# Altium schematic symbol library BOW_ESS_sch_lib.SchLib: 13 symbols
Pins are listed as number, name and electrical type; pins without a type are passive.

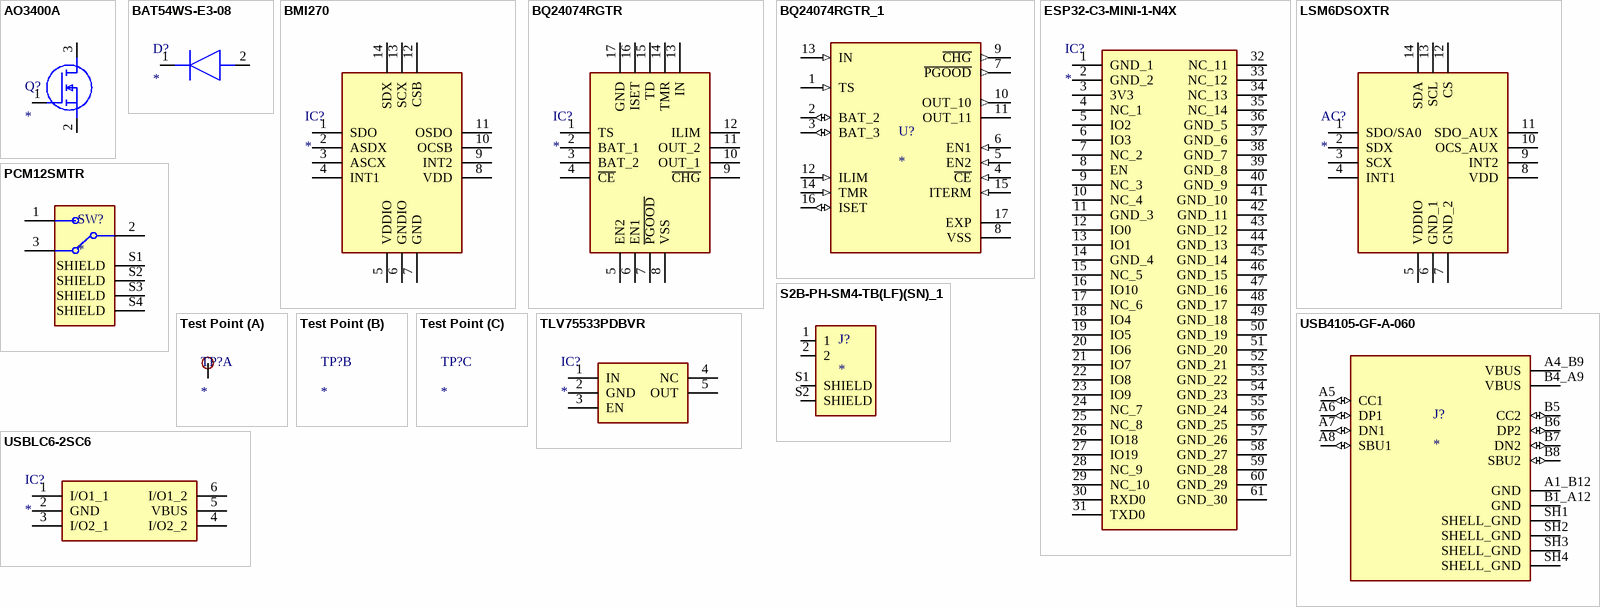
[diagram p0: symbols AO3400A to USBLC6-2SC6]

## AO3400A
designator Q?
MOSFET (N-Channel); Manufacturer_Name: Alpha & Omega Semiconductors; Manufacturer_Part_Number: AO3400A; Datasheet Link: http://aosmd.com/res/data_sheets/AO3400A.pdf; Height: 1.25mm; Arrow Part Number: AO3400A; Arrow Price/Stock: https://www.arrow.com/en/products/ao3400a/alpha-and-omega-semiconductor?utm_currency=USD&region=nac
footprint SOT95P280X125-3N
pins: 1 G, 2 S, 3 D

## BAT54WS-E3-08
designator D?
Diode; Manufacturer_Name: Vishay; Manufacturer_Part_Number: BAT54WS-E3-08; Datasheet Link: https://componentsearchengine.com/Datasheets/2/BAT54WS-E3-08.pdf; Height: 1.15mm; Mouser Part Number: 78-BAT54WS-E3-08; Mouser Price/Stock: https://www.mouser.co.uk/ProductDetail/Vishay-Semiconductors/BAT54WS-E3-08?qs=KP8Io%2FXyE5Rw40UGWRT8IQ%3D%3D; Arrow Part Number: BAT54WS-E3-08; Arrow Price/Stock: https://www.arrow.com/en/products/bat54ws-e3-08/vishay.html?utm_currency=USD&region=nac
footprint SOD2713X115N
pins: 1 K, 2 A

## BMI270
designator IC?
Integrated Circuit- IMU - Backup BMI270; Manufacturer_Name: BOSCH; Datasheet Link: https://www.bosch-sensortec.com/media/boschsensortec/downloads/datasheets/bst-bmi270-ds000.pdf; Height: 0.87mm; Manufacturer_Part_Number: BMI270; Mouser Part Number: 262-BMI270; Mouser Price/Stock: https://www.mouser.co.uk/ProductDetail/Bosch-Sensortec/BMI270?qs=u16ybLDytRYIj%252BjQEee88A%3D%3D; Arrow Part Number: BMI270; Arrow Price/Stock: https://www.arrow.com/en/products/bmi270/bosch-sensortec?utm_currency=USD&region=europe
footprint BMI270
pins: 1 SDO, 2 ASDX, 3 ASCX, 4 INT1, 5 VDDIO, 6 GNDIO, 7 GND, 8 VDD, 9 INT2, 10 OCSB, 11 OSDO, 12 CSB, 13 SCX, 14 SDX

## BQ24074RGTR
designator IC?
Integrated Circuit; Manufacturer_Name: Texas Instruments; Manufacturer_Part_Number: BQ24074RGTR; Datasheet Link: http://www.ti.com/lit/ds/symlink/bq24074.pdf; Height: 1mm; Mouser Part Number: 595-BQ24074RGTR; Mouser Price/Stock: https://www.mouser.co.uk/ProductDetail/Texas-Instruments/BQ24074RGTR?qs=ZV%2Fxhq4oszp2Nll7fIx5wg%3D%3D; Arrow Part Number: BQ24074RGTR; Arrow Price/Stock: https://www.arrow.com/en/products/bq24074rgtr/texas-instruments.html?utm_currency=USD&region=nac
footprint QFN50P300X300X100-17N-D
pins: 1 TS, 2 BAT_1, 3 BAT_2, 4 ~{CE}, 5 EN2, 6 EN1, 7 ~{PGOOD}, 8 VSS, 9 ~{CHG}, 10 OUT_1, 11 OUT_2, 12 ILIM, 13 IN, 14 TMR, 15 TD, 16 ISET, 17 GND

## BQ24074RGTR_1
designator U?
Standalone 1-cell 1.5-A linear battery charger, Power Path, 4.2-V VBAT, 10.5-V OVP and 4.4-V VOUT; MF: Texas Instruments; MP: BQ24074RGTR; SnapEDA_Link: https://www.snapeda.com/parts/BQ24074RGTR/Texas+Instruments/view-part/?ref=snap; Package: VQFN-16 Texas Instruments; Value: *; Check_prices: https://www.snapeda.com/parts/BQ24074RGTR/Texas+Instruments/view-part/?ref=eda
footprint QFN50P300X300X100-17N
footprint QFN50P300X300X100-17N-D
pins: 1 TS (in), 2 BAT_2 (io), 3 BAT_3 (io), 4 ~{CE} (in), 5 EN2 (in), 6 EN1 (in), 7 ~{PGOOD} (out), 8 VSS (power), 9 ~{CHG} (out), 10 OUT_10 (out), 11 OUT_11, 12 ILIM (in), 13 IN (in), 14 TMR (in), 15 ITERM (in), 16 ISET (io), 17 EXP (power)

## ESP32-C3-MINI-1-N4X
designator IC?
Integrated Circuit; Manufacturer_Name: Espressif Systems; Manufacturer_Part_Number: ESP32-C3-MINI-1-N4X; Datasheet Link: https://www.digikey.com/en/products/detail/espressif-systems/ESP32-C3-MINI-1-N4X/27525554; Height: 2.55mm
footprint ESP32C3MINI1N4X
pins: 1 GND_1, 2 GND_2, 3 3V3, 4 NC_1, 5 IO2, 6 IO3, 7 NC_2, 8 EN, 9 NC_3, 10 NC_4, 11 GND_3, 12 IO0, 13 IO1, 14 GND_4, 15 NC_5, 16 IO10, 17 NC_6, 18 IO4, 19 IO5, 20 IO6, 21 IO7, 22 IO8, 23 IO9, 24 NC_7, 25 NC_8, 26 IO18, 27 IO19, 28 NC_9, 29 NC_10, 30 RXD0, 31 TXD0, 32 NC_11, 33 NC_12, 34 NC_13, 35 NC_14, 36 GND_5, 37 GND_6, 38 GND_7, 39 GND_8, 40 GND_9, 41 GND_10, 42 GND_11, 43 GND_12, 44 GND_13, 45 GND_14, 46 GND_15, 47 GND_16, 48 GND_17, 49 GND_18, 50 GND_19, 51 GND_20, 52 GND_21, 53 GND_22, 54 GND_23, 55 GND_24, 56 GND_25, 57 GND_26, 58 GND_27, 59 GND_28, 60 GND_29, 61 GND_30

## LSM6DSOXTR
designator AC?
Accelerometer; Manufacturer_Name: STMicroelectronics; Manufacturer_Part_Number: LSM6DSOXTR; Datasheet Link: https://www.st.com/resource/en/datasheet/lsm6dsox.pdf; Mouser Part Number: 511-LSM6DSOXTR; Mouser Price/Stock: https://www.mouser.co.uk/ProductDetail/STMicroelectronics/LSM6DSOXTR?qs=l7cgNqFNU1i9dcjzItLpVQ%3D%3D; Arrow Part Number: LSM6DSOXTR; Arrow Price/Stock: https://www.arrow.com/en/products/lsm6dsoxtr/stmicroelectronics.html?utm_currency=USD&region=europe
footprint LGA-14_1
pins: 1 SDO/SA0, 2 SDX, 3 SCX, 4 INT1, 5 VDDIO, 6 GND_1, 7 GND_2, 8 VDD, 9 INT2, 10 OCS_AUX, 11 SDO_AUX, 12 CS, 13 SCL, 14 SDA

## PCM12SMTR
designator SW?
Slide Switch SPDT Surface Mount, Right Angle; MF: C&K; MP: PCM12SMTR; Price: None; Package: None; Purchase-URL: https://pricing.snapeda.com/search/part/PCM12SMTR/?ref=eda; Availability: In Stock; SnapEDA_Link: https://www.snapeda.com/parts/PCM12SMTR/C%2526K/view-part/?ref=snap; Value: *; Check_prices: https://www.snapeda.com/parts/PCM12SMTR/C%2526K/view-part/?ref=eda
footprint SW_PCM12SMTR
pins: 1, 2, 3, S1 SHIELD, S2 SHIELD, S3 SHIELD, S4 SHIELD

## S2B-PH-SM4-TB(LF)(SN)_1
designator J?
Connector Header Surface Mount, Right Angle 2 position 0.079 (2.00mm); MF: JST Sales; MP: S2B-PH-SM4-TB(LF)(SN); Value: *; SnapEDA_Link: https://www.snapeda.com/parts/S2B-PH-SM4-TB(LF)(SN)/JST+Sales+America+Inc./view-part/?ref=snap; Purchase-URL: https://pricing.snapeda.com/search/part/S2B-PH-SM4-TB(LF)(SN)/?ref=eda; Check_prices: https://www.snapeda.com/parts/S2B-PH-SM4-TB(LF)(SN)/JST+Sales+America+Inc./view-part/?ref=eda; Digi-Key_Part_Number: 455-1749-2-ND; Package: None
footprint JST_S2B-PH-SM4-TB(LF)(SN)
pins: 1, 2, S1 SHIELD, S2 SHIELD

## Test Point
designator TP?
Test point 1.5mm
footprint Test_Pad (Test Pad 1.5mm_Rect)
part A pins: ?1

## TLV75533PDBVR
designator IC?
Integrated Circuit; Manufacturer_Name: Texas Instruments; Manufacturer_Part_Number: TLV75533PDBVR; Datasheet Link: http://www.ti.com/lit/gpn/tlv755p; Height: 1.45mm; Mouser Part Number: 595-TLV75533PDBVR; Mouser Price/Stock: https://www.mouser.co.uk/ProductDetail/Texas-Instruments/TLV75533PDBVR?qs=55YtniHzbhAKEwqeO2xJXQ%3D%3D; Arrow Part Number: TLV75533PDBVR; Arrow Price/Stock: https://www.arrow.com/en/products/tlv75533pdbvr/texas-instruments?utm_currency=USD&region=nac
footprint SOT95P280X145-5N
pins: 1 IN, 2 GND, 3 EN, 4 NC, 5 OUT

## USB4105-GF-A-060
designator J?
USB-C (USB TYPE-C) USB 2.0 Receptacle Connector 24 (16+8 Dummy) Position Surface Mount, Right Angle; Through Hole; MF: Global Connector Technology; MP: USB4105GFA060; SnapEDA_Link: https://www.snapeda.com/parts/USB4105GFA060/Global+Connector+Technology/view-part/?ref=snap; Package: None; Value: *; Check_prices: https://www.snapeda.com/parts/USB4105GFA060/Global+Connector+Technology/view-part/?ref=eda
footprint GCT_USB4105-GF-A-060
pins: A1_B12 GND (power), A4_B9 VBUS (power), A5 CC1 (io), A6 DP1 (io), A7 DN1 (io), A8 SBU1 (io), B1_A12 GND (power), B4_A9 VBUS (power), B5 CC2 (io), B6 DP2 (io), B7 DN2 (io), B8 SBU2 (io), SH1 SHELL_GND (power), SH2 SHELL_GND (power), SH3 SHELL_GND (power), SH4 SHELL_GND (power)

## USBLC6-2SC6
designator IC?
Integrated Circuit; Manufacturer_Name: STMicroelectronics; Manufacturer_Part_Number: USBLC6-2SC6; Datasheet Link: https://www.st.com/resource/en/datasheet/usblc6-2.pdf; Height: 1.45mm; Mouser Part Number: 511-USBLC6-2SC6; Mouser Price/Stock: https://www.mouser.co.uk/ProductDetail/STMicroelectronics/USBLC6-2SC6?qs=po45yt2pPpu%2FhNIlwQdTlg%3D%3D; Arrow Part Number: USBLC6-2SC6; Arrow Price/Stock: https://www.arrow.com/en/products/usblc6-2sc6/stmicroelectronics.html?utm_currency=USD&region=nac
footprint SOT95P280X145-6N
pins: 1 I/O1_1, 2 GND, 3 I/O2_1, 4 I/O2_2, 5 VBUS, 6 I/O1_2